# Altium footprint library PcbLib1.PcbLib: 31 footprints (part 2 of 2)
Each footprint in its own frame and in the unit in brackets; x right, y up, seen from the top. Pads: shape width x height; smd on the part's side, far side on the other; paste and mask are expansions set on the pad; w line width, h text height; cw(c..) or ccw(c..) is an arc to the next point about the centre after c.
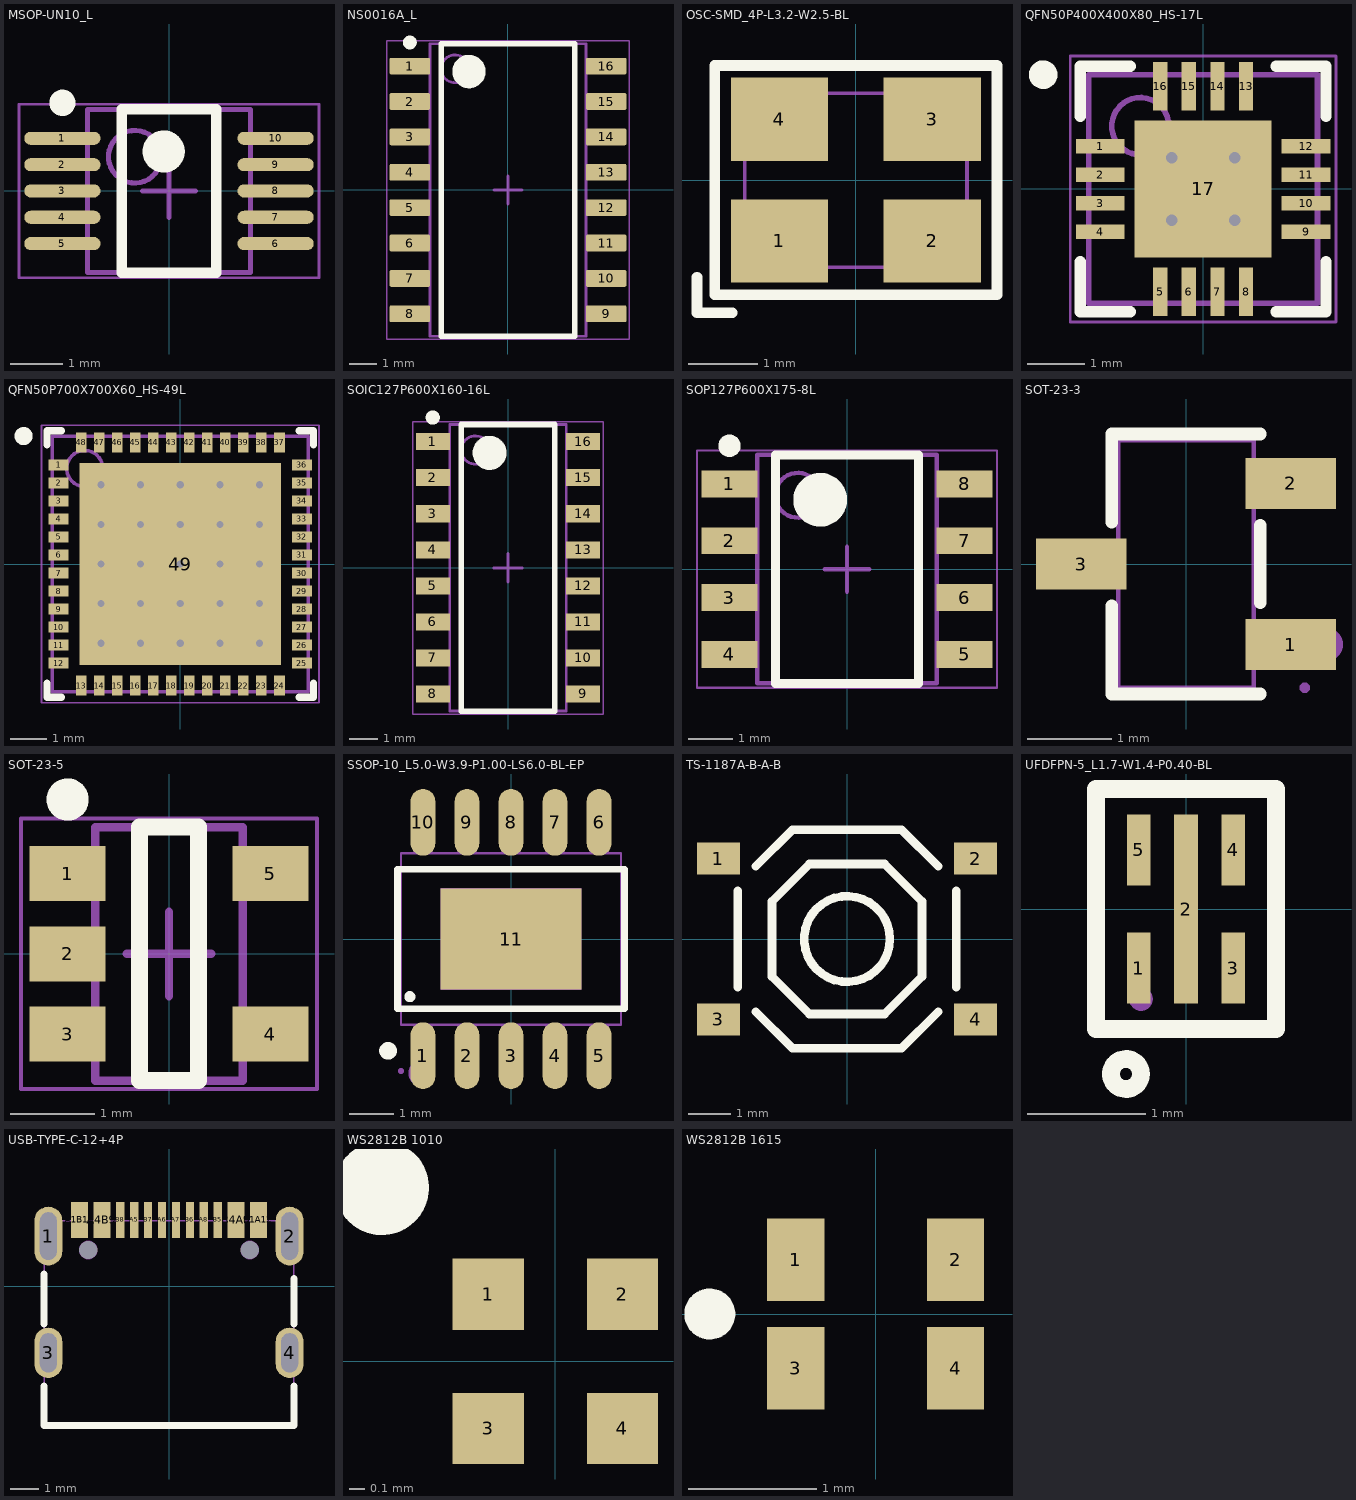
[diagram p1: the footprints below, top view; thin cyan lines are the x and y axes]

## MSOP-UN10_L [mm] "TSSOP, 10-Leads, Body 3x3mm, Pitch 0.5mm, IPC High Density"
height 1.1
pads (10):
  oval 1.45x0.25 smd: 1(-2.025,1) 2(-2.025,0.5) 3(-2.025,0) 4(-2.025,-0.5) 5(-2.025,-1) 6(2.025,-1) 7(2.025,-0.5) 8(2.025,0) 9(2.025,0.5) 10(2.025,1)
Top Overlay:
  circle w0.4: c-0.1,0.75 r0.2
  circle w0.25: c-2.025,1.675 r0.125
  lines w0.2: -0.9,-1.55 0.9,-1.55 0.9,1.55 -0.9,1.55 -0.9,-1.55
Mechanical 13:
  circle w0.1: c-0.65,0.65 r0.5
  lines w0.1: -1.55,-1.55 1.55,-1.55 1.55,1.55 -1.55,1.55 -1.55,-1.55
Mechanical 15:
  lines w0.05: -2.85,-1.65 2.85,-1.65 2.85,1.65 -2.85,1.65 -2.85,-1.65
  lines w0.1: -0.5,0 0.5,0 ; 0,-0.5 0,0.5
3D body: height 1.1, standoff 0, extent -1.55,-1.55 1.55,1.55

## NS0016A_L [mm] "SOIC,16-Leads,Body 10.5x5.6mm,Pitch 1.27mm,IPC High Density"
height 2
pads (16):
  rrect17% 1.45x0.6 smd: 1(-3.525,4.445) 2(-3.525,3.175) 3(-3.525,1.905) 4(-3.525,0.635) 5(-3.525,-0.635) 6(-3.525,-1.905) 7(-3.525,-3.175) 8(-3.525,-4.445) 9(3.525,-4.445) 10(3.525,-3.175) 11(3.525,-1.905) 12(3.525,-0.635) 13(3.525,0.635) 14(3.525,1.905) 15(3.525,3.175) 16(3.525,4.445)
Top Overlay:
  circle w0.6: c-1.4,4.25 r0.3
  circle w0.25: c-3.525,5.295 r0.125
  lines w0.2: -2.4,-5.25 2.4,-5.25 2.4,5.25 -2.4,5.25 -2.4,-5.25
Mechanical 1:
  text ".Designator" at -1.524,-0.508 h1.02
Mechanical 13:
  circle w0.1: c-1.9,4.35 r0.5
  lines w0.1: -2.8,-5.25 2.8,-5.25 2.8,5.25 -2.8,5.25 -2.8,-5.25
Mechanical 15:
  lines w0.05: -4.35,-5.35 4.35,-5.35 4.35,5.35 -4.35,5.35 -4.35,-5.35
  lines w0.1: -0.5,0 0.5,0 ; 0,-0.5 0,0.5
3D body: height 2, standoff 0.05, extent -2.8,-5.25 2.8,5.25

## OSC-SMD_4P-L3.2-W2.5-BL [mm]
pads (4):
  rect 1.4x1.2 smd mask+0.051: 1(-1.1,-0.875) 2(1.1,-0.875) 3(1.1,0.875) 4(-1.1,0.875)
Top Overlay:
  lines w0.152: -2.286,-1.397 -2.286,-1.905 -1.778,-1.905 ; -2.029,-1.651 2.032,-1.651 2.032,0 2.032,1.651 -2.029,1.651 -2.029,-1.651
Mechanical 15:
  region: 0.6,-0.449 1.5,-0.449 1.5,-1.249 0.6,-1.249
  region: -1.5,-0.449 -0.6,-0.449 -0.6,-1.249 -1.5,-1.249
  region: -1.5,1.249 -0.6,1.249 -0.6,0.449 -1.5,0.449
  region: 0.6,1.249 1.5,1.249 1.5,0.449 0.6,0.449
  region: -1.54,-1.25 -1.54,-1.225 -1.575,-1.19 -1.625,-1.19 -1.66,-1.225 -1.66,-1.25 -1.66,-1.275 -1.625,-1.31 -1.575,-1.31 -1.54,-1.275
  lines w0.051: -1.6,-1.25 1.6,-1.25 1.6,1.25 -1.6,1.25 -1.6,-1.25

## QFN50P400X400X80_HS-17L [mm] "QFN, 16-Leads, Body 4.00x4.00mm, Pitch 0.50mm, Thermal Pad 2.40x2.40mm, IPC High Density"
height 0.8
pads (17):
  rect 0.85x0.25 smd: 1(-1.8,0.75) 2(-1.8,0.25) 3(-1.8,-0.25) 4(-1.8,-0.75) 9(1.8,-0.75) 10(1.8,-0.25) 11(1.8,0.25) 12(1.8,0.75)
  rect 0.25x0.85 smd: 5(-0.75,-1.8) 6(-0.25,-1.8) 7(0.25,-1.8) 8(0.75,-1.8) 13(0.75,1.8) 14(0.25,1.8) 15(-0.25,1.8) 16(-0.75,1.8)
  rect 2.4x2.4 smd: 17(0,0)
via -0.55,0.55 diameter 0.5 hole 0.2
via 0.55,0.55 diameter 0.5 hole 0.2
via -0.55,-0.55 diameter 0.5 hole 0.2
via 0.55,-0.55 diameter 0.5 hole 0.2
Top Overlay:
  circle w0.25: c-2.8,2 r0.125
  lines w0.2: -2.15,-1.275 -2.15,-2.15 -1.275,-2.15 ; -2.15,1.275 -2.15,2.15 -1.275,2.15 ; 1.275,-2.15 2.15,-2.15 2.15,-1.275 ; 1.275,2.15 2.15,2.15 2.15,1.275
Mechanical 13:
  circle w0.1: c-1.1,1.1 r0.5
  lines w0.1: -2,-2 -2,2 2,2 2,-2 -2,-2
Mechanical 15:
  lines w0.05: -2.325,-2.325 -2.325,2.325 2.325,2.325 2.325,-2.325 -2.325,-2.325
  lines w0.1: -0.5,0 0.5,0 ; 0,-0.5 0,0.5
3D body: height 0.8, standoff 0.01, extent -2,-2 2,2

## QFN50P700X700X60_HS-49L [mm] "QFN, 48-Leads, Body 7.00x7.00mm, Pitch 0.50mm, Thermal Pad 5.60x5.60mm, IPC High Density"
height 0.6
pads (49):
  rect 0.55x0.3 smd: 1(-3.375,2.75) 2(-3.375,2.25) 3(-3.375,1.75) 4(-3.375,1.25) 5(-3.375,0.75) 6(-3.375,0.25) 7(-3.375,-0.25) 8(-3.375,-0.75) 9(-3.375,-1.25) 10(-3.375,-1.75) 11(-3.375,-2.25) 12(-3.375,-2.75) 25(3.375,-2.75) 26(3.375,-2.25) 27(3.375,-1.75) 28(3.375,-1.25) 29(3.375,-0.75) 30(3.375,-0.25) 31(3.375,0.25) 32(3.375,0.75) 33(3.375,1.25) 34(3.375,1.75) 35(3.375,2.25) 36(3.375,2.75)
  rect 0.3x0.55 smd: 13(-2.75,-3.375) 14(-2.25,-3.375) 15(-1.75,-3.375) 16(-1.25,-3.375) 17(-0.75,-3.375) 18(-0.25,-3.375) 19(0.25,-3.375) 20(0.75,-3.375) 21(1.25,-3.375) 22(1.75,-3.375) 23(2.25,-3.375) 24(2.75,-3.375) 37(2.75,3.375) 38(2.25,3.375) 39(1.75,3.375) 40(1.25,3.375) 41(0.75,3.375) 42(0.25,3.375) 43(-0.25,3.375) 44(-0.75,3.375) 45(-1.25,3.375) 46(-1.75,3.375) 47(-2.25,3.375) 48(-2.75,3.375)
  rect 5.6x5.6 smd: 49(0,0)
via 2.2,-2.2 diameter 0.5 hole 0.2
via 1.1,-2.2 diameter 0.5 hole 0.2
via 0,-2.2 diameter 0.5 hole 0.2
via -1.1,-2.2 diameter 0.5 hole 0.2
via -2.2,-2.2 diameter 0.5 hole 0.2
via 2.2,-1.1 diameter 0.5 hole 0.2
via 1.1,-1.1 diameter 0.5 hole 0.2
via 0,-1.1 diameter 0.5 hole 0.2
via -1.1,-1.1 diameter 0.5 hole 0.2
via -2.2,-1.1 diameter 0.5 hole 0.2
via 2.2,0 diameter 0.5 hole 0.2
via 1.1,0 diameter 0.5 hole 0.2
via 0,0 diameter 0.5 hole 0.2
via -1.1,0 diameter 0.5 hole 0.2
via -2.2,0 diameter 0.5 hole 0.2
via 2.2,1.1 diameter 0.5 hole 0.2
via 1.1,1.1 diameter 0.5 hole 0.2
via 0,1.1 diameter 0.5 hole 0.2
via -1.1,1.1 diameter 0.5 hole 0.2
via -2.2,1.1 diameter 0.5 hole 0.2
via 2.2,2.2 diameter 0.5 hole 0.2
via 1.1,2.2 diameter 0.5 hole 0.2
via 0,2.2 diameter 0.5 hole 0.2
via -1.1,2.2 diameter 0.5 hole 0.2
via -2.2,2.2 diameter 0.5 hole 0.2
Top Overlay:
  circle w0.25: c-4.35,3.55 r0.125
  lines w0.2: -3.7,-3.3 -3.7,-3.7 -3.3,-3.7 ; -3.7,3.3 -3.7,3.7 -3.3,3.7 ; 3.3,-3.7 3.7,-3.7 3.7,-3.3 ; 3.3,3.7 3.7,3.7 3.7,3.3
Mechanical 13:
  circle w0.1: c-2.65,2.65 r0.5
  lines w0.1: -3.55,-3.55 3.55,-3.55 3.55,3.55 -3.55,3.55 -3.55,-3.55
Mechanical 15:
  lines w0.05: -3.85,-3.85 3.85,-3.85 3.85,3.85 -3.85,3.85 -3.85,-3.85
  lines w0.1: -0.5,0 0.5,0 ; 0,-0.5 0,0.5
3D body: height 0.6, standoff 0.05, extent -3.55,-3.55 3.55,3.55

## SOIC127P600X160-16L [mm] "SOIC, 16-Leads, Body 9.90x3.90mm, Pitch 1.27mm, IPC High Density"
height 1.6
pads (16):
  rect 1.2x0.6 smd: 1(-2.65,4.445) 2(-2.65,3.175) 3(-2.65,1.905) 4(-2.65,0.635) 5(-2.65,-0.635) 6(-2.65,-1.905) 7(-2.65,-3.175) 8(-2.65,-4.445) 9(2.65,-4.445) 10(2.65,-3.175) 11(2.65,-1.905) 12(2.65,-0.635) 13(2.65,0.635) 14(2.65,1.905) 15(2.65,3.175) 16(2.65,4.445)
Top Overlay:
  circle w0.6: c-0.65,4.05 r0.3
  circle w0.25: c-2.65,5.295 r0.125
  lines w0.2: -1.65,-5.05 1.65,-5.05 1.65,5.05 -1.65,5.05 -1.65,-5.05
Mechanical 13:
  circle w0.1: c-1.15,4.15 r0.5
  lines w0.1: -2.05,-5.05 2.05,-5.05 2.05,5.05 -2.05,5.05 -2.05,-5.05
Mechanical 15:
  lines w0.05: -3.35,-5.15 3.35,-5.15 3.35,5.15 -3.35,5.15 -3.35,-5.15
  lines w0.1: -0.5,0 0.5,0 ; 0,-0.5 0,0.5
3D body "SOIC127P600X160-16L.step": height 1.6, standoff 0, extent -3,-5.05 3,5.05

## SOP127P600X175-8L [mm] "SOP, 8-Leads, Body 4.90x3.90mm, Pitch 1.27mm, IPC High Density"
height 1.75
pads (8):
  rect 1.25x0.6 smd: 1(-2.625,1.905) 2(-2.625,0.635) 3(-2.625,-0.635) 4(-2.625,-1.905) 5(2.625,-1.905) 6(2.625,-0.635) 7(2.625,0.635) 8(2.625,1.905)
Top Overlay:
  circle w0.25: c-2.625,2.755 r0.125
  circle w0.6: c-0.6,1.55 r0.3
  lines w0.2: -1.6,-2.55 -1.6,2.55 1.6,2.55 1.6,-2.55 -1.6,-2.55
Mechanical 13:
  circle w0.1: c-1.1,1.65 r0.5
  lines w0.1: -2,-2.55 -2,2.55 2,2.55 2,-2.55 -2,-2.55
Mechanical 15:
  lines w0.05: -3.35,-2.65 -3.35,2.65 3.35,2.65 3.35,-2.65 -3.35,-2.65
  lines w0.1: -0.5,0 0.5,0 ; 0,-0.5 0,0.5
3D body: height 1.75, standoff 0.1, extent -2,-2.55 2,2.55

## SOT-23-3 [mm]
pads (3):
  rect 1.07x0.6 smd mask+0.051: 1(1.235,-0.95) 2(1.235,0.95) 3(-1.235,0)
Top Overlay:
  lines w0.152: -0.876,-0.495 -0.876,-1.536 0.876,-1.536 ; -0.876,0.495 -0.876,1.536 0.876,1.536 ; 0.876,-0.455 0.876,0.455
Mechanical 6:
  circle w0.2: c1.651,-0.95 r0.1
Mechanical 15:
  region: 1.46,-1.46 1.46,-1.435 1.425,-1.4 1.375,-1.4 1.34,-1.435 1.34,-1.46 1.34,-1.485 1.375,-1.52 1.425,-1.52 1.46,-1.485
  region: 0.95,-1.15 0.95,-0.75 1.4,-0.75 1.4,-1.15
  region: 0.79,-1.15 0.79,-0.75 0.96,-0.75 0.96,-1.15
  region: 0.95,0.75 0.95,1.15 1.4,1.15 1.4,0.75
  region: 0.79,0.75 0.79,1.15 0.96,1.15 0.96,0.75
  region: -0.95,-0.2 -0.95,0.2 -1.4,0.2 -1.4,-0.2
  region: -0.96,-0.2 -0.96,0.2 -0.79,0.2 -0.79,-0.2
  lines w0.051: -0.8,-1.46 -0.8,1.46 0.8,1.46 0.8,-1.46 -0.8,-1.46
3D body "sot-23-3.STEP": height 1.5, standoff 0, extent -1.41,-1.45 1.41,1.45

## SOT-23-5 [mm]
pads (5):
  rect 0.9x0.65 smd: 1(-1.2,0.95) 2(-1.2,0) 3(-1.2,-0.95) 4(1.2,-0.95) 5(1.2,0.95)
Top Overlay:
  circle w0.25: c-1.2,1.825 r0.125
  lines w0.2: -0.35,-1.5 0.35,-1.5 0.35,1.5 -0.35,1.5 -0.35,-1.5
Mechanical 13:
  lines w0.1: -0.875,-1.5 -0.875,1.5 0.875,1.5 0.875,-1.5 -0.875,-1.5
Mechanical 15:
  lines w0.05: -1.75,-1.6 -1.75,1.6 1.75,1.6 1.75,-1.6 -1.75,-1.6
  lines w0.1: -0.5,0 0.5,0 ; 0,-0.5 0,0.5
3D body: height 1.45, standoff 0, extent -0.875,-1.5 0.875,1.5

## SSOP-10_L5.0-W3.9-P1.00-LS6.0-BL-EP [mm]
pads (11):
  oval 0.56x1.515 smd paste+0 mask+0.051: 1(-2,-2.65) 2(-1,-2.65) 3(0,-2.65) 4(1,-2.65) 5(2,-2.65) 6(2,2.65) 7(1,2.65) 8(0,2.65) 9(-1,2.65) 10(-2,2.65)
  rect 3.2x2.3 smd paste+0 mask+0.051: 11(0,0)
Top Overlay:
  circle w0.125: c-2.299,-1.31 r0.062
  circle w0.2: c-2.794,-2.54 r0.1
  lines w0.152: -2.576,-1.588 -2.576,1.588 2.576,1.588 2.576,-1.588 -2.576,-1.588
Mechanical 6:
  circle w0.3: c-2.032,-3.048 r0.15
Mechanical 15:
  drawing of 26 lines, arcs and shapes, not listed

## TS-1187A-B-A-B [mm]
pads (4):
  rect 1x0.75 smd mask+0.15: 1(-3,1.875) 2(3,1.875) 3(-3,-1.875)
  rect 1x0.75 smd paste+0 mask+0.15: 4(3,-1.875)
Top Overlay:
  circle w0.2: c0,0 r1
  lines w0.2: -2.55,-1.125 -2.55,1.125 ; -2.125,-1.7 -1.275,-2.55 1.275,-2.55 2.125,-1.7 ; -2.125,1.7 -1.275,2.55 1.275,2.55 2.125,1.7 ; -0.875,-1.75 0.875,-1.75 1.75,-0.875 1.75,0.875 0.875,1.75 -0.875,1.75 -1.75,0.875 -1.75,-0.875 -0.873,-1.752 ; 2.55,-1.125 2.55,1.125
3D body "TS-1187A.step": height 1.4, standoff 0, extent -3.25,-2.55 3.25,2.55

## UFDFPN-5_L1.7-W1.4-P0.40-BL [mm]
pads (5):
  rect 0.2x0.6 smd: 1(-0.4,-0.5) 3(0.4,-0.5) 4(0.4,0.5) 5(-0.4,0.5)
  rect 0.2x1.6 smd: 2(0,0)
Top Overlay:
  circle w0.15: c-0.508,-1.397 r0.127
  lines w0.15: -0.762,-1.016 0.762,-1.016 0.762,1.016 -0.762,1.016 -0.762,-1.016
Mechanical 15:
  circle w0.1: c-0.381,-0.762 r0.05

## USB-TYPE-C-12+4P [mm]
pads (18):
  oval 1x2.1 hole 0.6 slot 1.7 at 90 deg mask+0.05: 1(-4.32,1.801) 2(4.32,1.801)
  oval 1x1.8 hole 0.6 slot 1.4 at 90 deg mask+0.05: 3(-4.32,-2.379) 4(4.32,-2.379)
  round 0 hole 0.65 unplated: 6(-2.89,1.302) 7(2.89,1.301)
  rect 0.6x1.3 smd mask+0.05: A1B12(-3.2,2.379) A4B9(-2.4,2.379) B1A12(3.2,2.379) B4A9(2.4,2.379)
  rect 0.3x1.3 smd mask+0.05: A5(-1.25,2.379) A6(-0.25,2.379) A7(0.25,2.379) A8(1.25,2.379) B5(1.75,2.379) B6(0.75,2.379) B7(-0.75,2.379) B8(-1.75,2.379)
Top Overlay:
  lines w0.254: -4.48,-3.564 -4.48,-4.988 4.48,-4.988 4.48,-3.564 ; -4.48,-1.337 -4.48,0.436 ; 4.48,-1.337 4.48,0.282
Top Paste:
  region: -3.5,3.029 -2.9,3.029 -2.9,1.729 -3.5,1.729
  region: -2.7,3.029 -2.1,3.029 -2.1,1.729 -2.7,1.729
  region: 2.9,3.029 3.5,3.029 3.5,1.729 2.9,1.729
  region: 2.1,3.029 2.7,3.029 2.7,1.729 2.1,1.729
  region: 1.6,3.029 1.9,3.029 1.9,1.729 1.6,1.729
  region: 1.1,3.029 1.4,3.029 1.4,1.729 1.1,1.729
  region: 0.6,3.029 0.9,3.029 0.9,1.729 0.6,1.729
  region: 0.1,3.029 0.4,3.029 0.4,1.729 0.1,1.729
  region: -0.4,3.029 -0.1,3.029 -0.1,1.729 -0.4,1.729
  region: -0.9,3.029 -0.6,3.029 -0.6,1.729 -0.9,1.729
  region: -1.4,3.029 -1.1,3.029 -1.1,1.729 -1.4,1.729
  region: -1.9,3.029 -1.6,3.029 -1.6,1.729 -1.9,1.729
  region: 3.82,-1.979 3.82,-1.88 3.896,-1.696 4.037,-1.555 4.221,-1.479 4.42,-1.479 4.603,-1.555 4.744,-1.696 4.82,-1.88 4.82,-1.979 4.82,-2.779 4.82,-2.878 4.744,-3.062 4.603,-3.203 4.42,-3.279 4.221,-3.279 4.037,-3.203 3.896,-3.062 3.82,-2.878 3.82,-2.779
  region: -4.82,-1.979 -4.82,-1.88 -4.744,-1.696 -4.603,-1.555 -4.419,-1.479 -4.221,-1.479 -4.037,-1.555 -3.896,-1.696 -3.82,-1.88 -3.82,-1.979 -3.82,-2.779 -3.82,-2.878 -3.896,-3.062 -4.037,-3.203 -4.221,-3.279 -4.419,-3.279 -4.603,-3.203 -4.744,-3.062 -4.82,-2.878 -4.82,-2.779
  region: 3.82,2.351 3.82,2.45 3.896,2.634 4.037,2.775 4.221,2.851 4.42,2.851 4.603,2.775 4.744,2.634 4.82,2.45 4.82,2.351 4.82,1.251 4.82,1.151 4.744,0.968 4.603,0.827 4.42,0.751 4.221,0.751 4.037,0.827 3.896,0.968 3.82,1.151 3.82,1.251
  region: -4.82,2.351 -4.82,2.45 -4.744,2.634 -4.603,2.775 -4.419,2.851 -4.221,2.851 -4.037,2.775 -3.896,2.634 -3.82,2.45 -3.82,2.351 -3.82,1.251 -3.82,1.151 -3.896,0.968 -4.037,0.827 -4.221,0.751 -4.419,0.751 -4.603,0.827 -4.744,0.968 -4.82,1.151 -4.82,1.251
Keep-Out Layer:
  board cut-out: 3.215,1.301 3.215,1.366 3.166,1.485 3.074,1.577 2.955,1.626 2.825,1.626 2.706,1.577 2.614,1.485 2.565,1.366 2.565,1.301 2.565,1.236 2.614,1.117 2.706,1.025 2.825,0.976 2.955,0.976 3.074,1.025 3.166,1.117 3.215,1.236
  board cut-out: -2.565,1.302 -2.565,1.367 -2.614,1.486 -2.706,1.578 -2.825,1.627 -2.955,1.627 -3.074,1.578 -3.166,1.486 -3.215,1.367 -3.215,1.302 -3.215,1.237 -3.166,1.118 -3.074,1.027 -2.955,0.977 -2.825,0.977 -2.706,1.027 -2.614,1.118 -2.565,1.237
Mechanical 15:
  region: -4.41,2.592 -4.41,2.617 -4.445,2.652 -4.495,2.652 -4.53,2.617 -4.53,2.592 -4.53,2.568 -4.495,2.532 -4.445,2.532 -4.41,2.568
  region: -1.85,2.592 -1.65,2.592 -1.65,1.842 -1.85,1.842
  region: -1.35,2.592 -1.15,2.592 -1.15,1.842 -1.35,1.842
  region: -0.85,2.592 -0.65,2.592 -0.65,1.842 -0.85,1.842
  region: -0.35,2.592 -0.15,2.592 -0.15,1.842 -0.35,1.842
  region: 0.15,2.592 0.35,2.592 0.35,1.842 0.15,1.842
  region: 0.65,2.592 0.85,2.592 0.85,1.842 0.65,1.842
  region: 1.15,2.592 1.35,2.592 1.35,1.842 1.15,1.842
  region: 1.65,2.592 1.85,2.592 1.85,1.842 1.65,1.842
  region: -3.4,2.592 -3,2.592 -3,1.842 -3.4,1.842
  region: -2.6,2.592 -2.2,2.592 -2.2,1.842 -2.6,1.842
  region: 2.2,2.592 2.6,2.592 2.6,1.842 2.2,1.842
  region: 3,2.592 3.4,2.592 3.4,1.842 3,1.842
  region: -4.47,2.351 -4.17,2.351 -4.17,1.251 -4.47,1.251
  region: 4.17,2.351 4.47,2.351 4.47,1.251 4.17,1.251
  region: 4.17,-1.979 4.47,-1.979 4.47,-2.779 4.17,-2.779
  region: -4.47,-1.979 -4.17,-1.979 -4.17,-2.779 -4.47,-2.779
  lines w0.051: -4.47,-5.008 -4.47,2.342 4.47,2.342 4.47,-5.008 -4.47,-5.008
3D body "USB Type C Port (SMD Type).STEP": height 3.23, standoff -0.97, extent -4.47,-4.949 4.47,2.951

## WS2812B 1010 [mm]
pads (4):
  rect 0.45x0.45 smd mask+0.1: 1(-0.425,0.425) 2(0.425,0.425) 3(-0.425,-0.425) 4(0.425,-0.425)
Top Overlay:
  circle w0.3: c-1.1,1.1 r0.15

## WS2812B 1615 [mm]
pads (4):
  rect 0.45x0.65 smd mask+0.1: 1(-0.625,0.425) 2(0.625,0.425) 3(-0.625,-0.425) 4(0.625,-0.425)
Top Overlay:
  circle w0.2: c-1.3,0 r0.1